# Altium schematic symbol library Driver.SchLib: 11 symbols
Pins are listed as number, name and electrical type; pins without a type are passive.

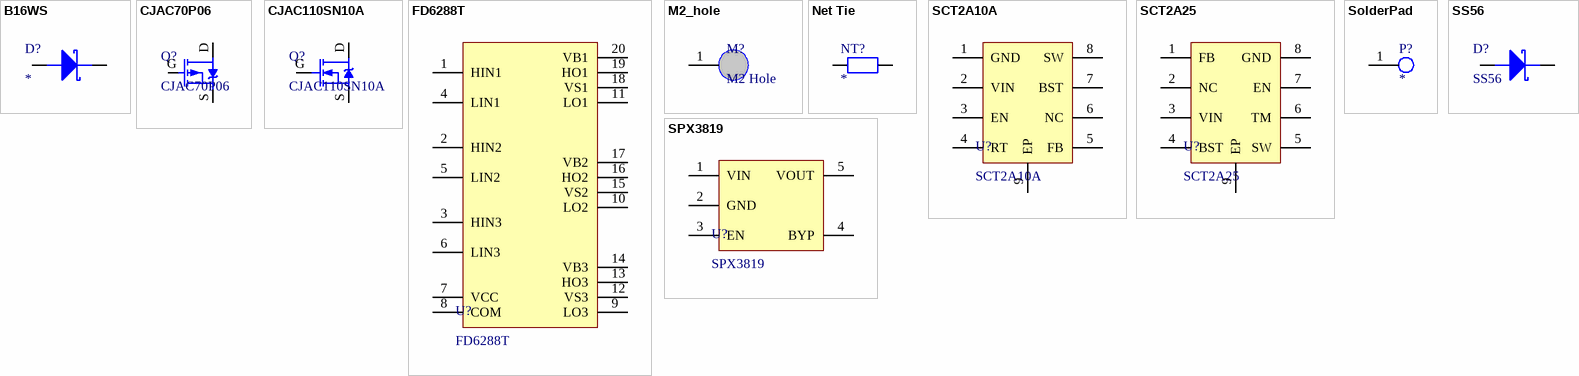
[diagram p0: symbols B16WS to SS56]

## B16WS
designator D?
Schottky Barrier Diode
pins: A, K

## CJAC70P06
designator Q?
-70A 7.6mΩ@-10V P-Channel Power MOSFET
footprint PDFNWB5×6-8L
pins: D, G, S

## CJAC110SN10A
designator Q?
110A 3.4mΩ@10V N-Channel Power MOSFET
footprint PDFNWB5×6-8L
pins: D, G, S

## FD6288T
designator U?
三相250V栅极驱动器
footprint TSSOP20_L (TSOP, 20-Leads, Body 6.5x4.4mm, Pitch 0.65mm, IPC High Density)
pins: 1 HIN1, 2 HIN2, 3 HIN3, 4 LIN1, 5 LIN2, 6 LIN3, 7 VCC, 8 COM, 9 LO3, 10 LO2, 11 LO1, 12 VS3, 13 HO3, 14 VB3, 15 VS2, 16 HO2, 17 VB2, 18 VS1, 19 HO1, 20 VB1

## M2_hole
designator M?, comment M2 Hole
footprint M2 Hole
pins: 1 Hole

## Net Tie
designator NT?  (net tie, no BOM)
footprint Net Tie 10mil
pins: 1, 2

## SCT2A10A
designator U?
4.5V-100V Vin, 0.6A, High Efficiency Synchronous Step-down DCDC / Converter with Programmable Frequency
footprint ESOP8_L (5*6*1.8mm（长宽高）)
pins: 1 GND, 2 VIN, 3 EN, 4 RT, 5 FB, 6 NC, 7 BST, 8 SW, 9 EP

## SCT2A25
designator U?
5.5V-100V Vin, 4A Peak Current Limit, High Efficiency Asynchronous Stepdown DCDC Converter
footprint ESOP8_L (5*6*1.8mm（长宽高）)
pins: 1 FB, 2 NC, 3 VIN, 4 BST, 5 SW, 6 TM, 7 EN, 8 GND, 9 EP

## SolderPad
designator P?
焊盘
footprint SolderPad
footprint SolderPad
footprint SolderPad
pins: 1 SolderPad

## SPX3819
designator U?
500mA Low-Noise LDO Voltage Regulator
footprint SOT23-5L (SOT23, 5-Leads, Body 2.9x1.6mm, Pitch 0.95mm, IPC High Density                联系卖家 免费查找封装)
pins: 1 VIN, 2 GND, 3 EN, 4 BYP, 5 VOUT

## SS56
designator D?
SURFACE MOUNT SCHOTTKY BARRIER RECTIFIER
pins: A, K